# Altium footprint library HC49S.PCBLIB: 1 footprints
Each footprint in its own frame and in the unit in brackets; x right, y up, seen from the top. Pads: shape width x height; smd on the part's side, far side on the other; paste and mask are expansions set on the pad; w line width, h text height; cw(c..) or ccw(c..) is an arc to the next point about the centre after c.
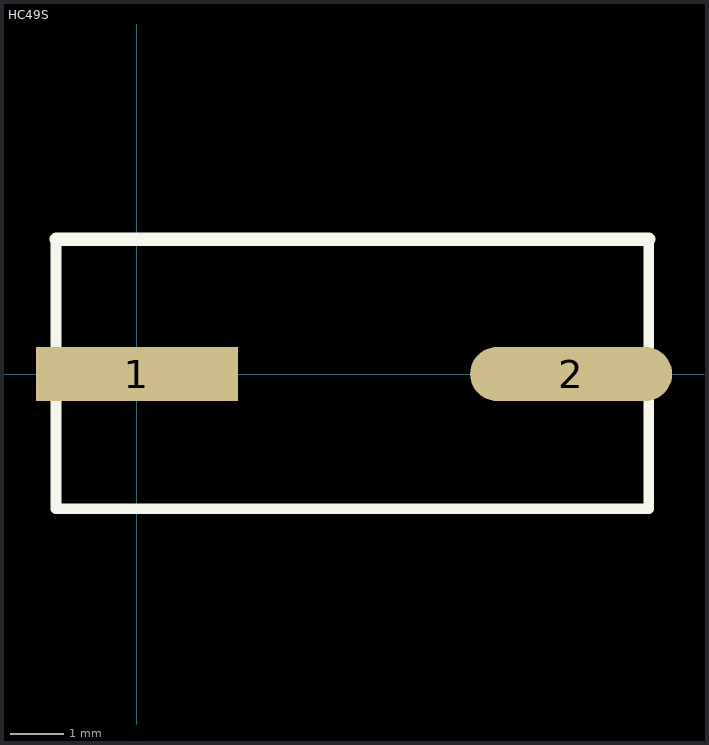
[diagram p0: the footprint, top view; thin cyan lines are the x and y axes]

## HC49S [mm] "HC49S SMD Xtal package"
height 8
pads (2):
  rect 3.81x1.02 smd: 1(0,0)
  oval 3.81x1.02 smd: 2(8.19,0)
Top Overlay:
  lines w0.2: -1.524,2.54 -1.524,-2.54 9.652,-2.54 9.652,2.54
  lines w0.254: -1.524,2.54 9.652,2.54